# Altium footprint library PcbLib.PcbLib: 27 footprints (part 2 of 2)
Each footprint in its own frame and in the unit in brackets; x right, y up, seen from the top. Pads: shape width x height; smd on the part's side, far side on the other; paste and mask are expansions set on the pad; w line width, h text height; cw(c..) or ccw(c..) is an arc to the next point about the centre after c.
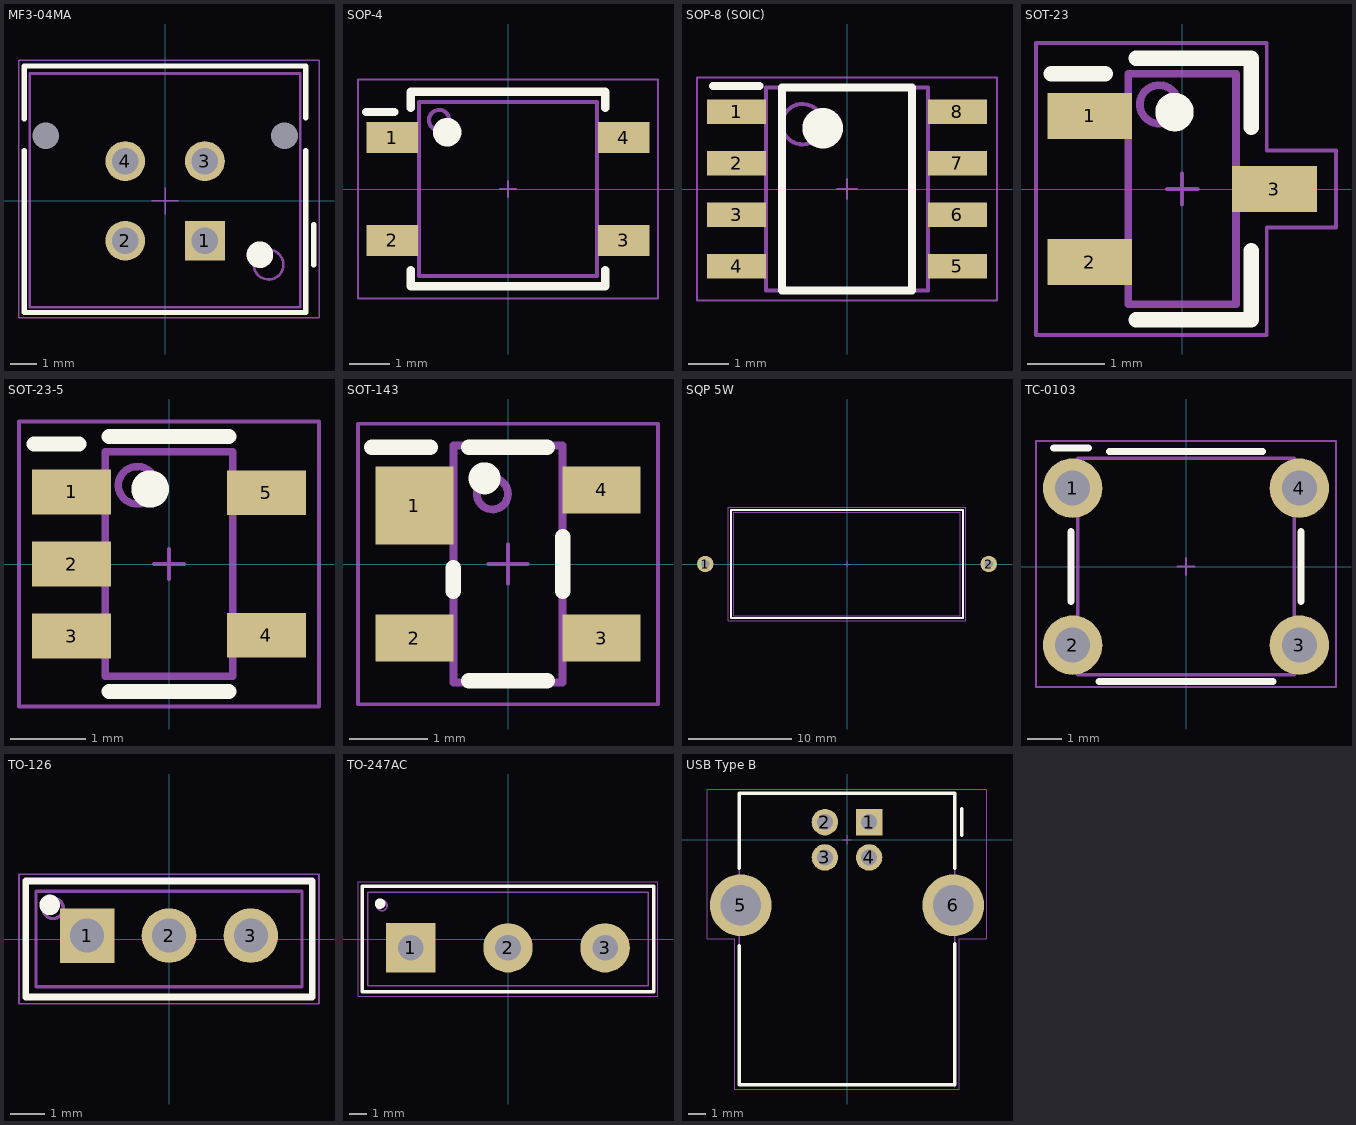
[diagram p1: the footprints below, top view; thin cyan lines are the x and y axes]

## MF3-04MA [mm] "Micro-Fit 3.0 43045-0412 4pin"
pads (6):
  round 0 hole 1 unplated: 0(-4.5,2.45) 0(4.5,2.45)
  rect 1.5x1.5 hole 1: 1(1.5,-1.5)
  round 1.5 hole 1: 2(-1.5,-1.5) 3(1.5,1.5) 4(-1.5,1.5)
Top Overlay:
  circle w0.6: c3.575,-2.025 r0.2
  lines w0.2: -5.3,1.9 -5.3,-4.2 5.3,-4.2 5.3,1.9 ; -5.3,3.1 -5.3,5.085 5.3,5.085 5.3,3.125 ; 5.6,-2.4 5.6,-0.9
Mechanical 13:
  circle w0.1: c3.9,-2.4 r0.559
  lines w0.1: -5.1,-4 5.1,-4 5.1,4.8 -5.1,4.8 -5.1,-4
  text ".Designator" at -2,-3 h1
Mechanical 15:
  lines w0.05: -0.5,0 0.5,0 ; 0,-0.5 0,0.5 ; -5.5,-4.4 -5.5,5.3 5.8,5.3 5.8,-4.4 -5.5,-4.4
3D body "430450412--3DModel-STEP-418109.STEP": height 9.91, standoff -3.18, extent -5.075,-3.97 5.075,4.8

## SOP-4 [mm]
pads (4):
  rect 1.27x0.76 smd: 1(-2.86,1.27) 2(-2.86,-1.27) 3(2.86,-1.27) 4(2.86,1.27)
Top Overlay:
  circle w0.4: c-1.5,1.4 r0.15
  lines w0.2: -3.5,1.9 -2.8,1.9 ; -2.4,-2 -2.4,-2.4 2.4,-2.4 2.4,-2 ; -2.4,2 -2.4,2.4 2.4,2.4 2.4,2
Mechanical 13:
  circle w0.1: c-1.7,1.7 r0.25
  lines w0.1: -2.2,-2.15 2.2,-2.15 2.2,2.15 -2.2,2.15 -2.2,-2.15
  text ".Designator" at -1.791,-1.297 h1
Mechanical 15:
  lines w0.05: -0.2,0 0.2,0 ; 0,-0.2 0,0.2 ; -3.7,-2.7 3.7,-2.7 3.7,2.7 -3.7,2.7 -3.7,-2.7
3D body: height 2.1, standoff 0, extent -2.2,-2.15 2.2,2.15

## SOP-8 (SOIC) [mm] "8-Lead Standard Small Outline Package"
height 1.75
pads (8):
  rect 1.45x0.6 smd: 1(-2.725,1.905) 2(-2.725,0.635) 3(-2.725,-0.635) 4(-2.725,-1.905) 5(2.725,-1.905) 6(2.725,-0.635) 7(2.725,0.635) 8(2.725,1.905)
Top Overlay:
  circle w0.6: c-0.6,1.5 r0.2
  lines w0.2: -3.302,2.54 -2.159,2.54 ; -1.6,-2.5 -1.6,2.5 1.6,2.5 1.6,-2.5 -1.6,-2.5
Mechanical 13:
  circle w0.1: c-1.1,1.6 r0.5
  lines w0.1: -2,-2.5 -2,2.5 2,2.5 2,-2.5 -2,-2.5
  text ".Designator" at -1.75,-3.343 h1
Mechanical 15:
  lines w0.05: -0.25,0 0.25,0 ; 0,-0.25 0,0.25 ; -3.7,-2.75 -3.7,2.75 3.7,2.75 3.7,-2.75 -3.7,-2.75
3D body: height 1.75, standoff 0.1, extent -2,-2.5 2,2.5

## SOT-23 [mm] "3-Leads, Body 2,90x2,30mm, Pitch 0,95mm, IPC Medium Density"
pads (3):
  rect 1.1x0.6 smd: 1(-1.2,0.95) 2(-1.2,-0.95) 3(1.2,0)
Top Overlay:
  circle w0.3: c-0.1,1 r0.1
  lines w0.2: -1.7,1.5 -1,1.5 ; -0.6,-1.7 0.9,-1.7 0.9,-0.8 ; -0.6,1.7 0.9,1.7 0.9,0.8
Mechanical 13:
  circle w0.1: c-0.3,1.1 r0.25
  lines w0.1: -0.7,-1.5 0.7,-1.5 0.7,1.5 -0.7,1.5 -0.7,-1.5
  text ".Designator" at -2,-2.5 h1
Mechanical 15:
  lines w0.05: -0.2,0 0.2,0 ; 0,-0.2 0,0.2 ; -1.9,-1.9 -1.9,1.4 -1.9,1.9 -0.9,1.9 1.1,1.9 1.1,0.5 2,0.5 2,-0.5 1.1,-0.5 1.1,-1.9 -0.9,-1.9 -1.9,-1.9
3D body: height 0.25, standoff 0, extent -1.4,-1.2 -0.7,-0.7
3D body: height 0.25, standoff 0, extent 0.7,-0.25 1.4,0.25
3D body: height 0.25, standoff 0, extent -1.4,0.7 -0.7,1.2
3D body: height 1.12, standoff 0.1, extent -0.7,-1.5 0.7,1.5

## SOT-23-5 [mm] "5-Leads, Body 3,00x1,70mm, Pitch 0,95mm"
pads (5):
  rect 1.05x0.6 smd: 1(-1.3,0.96) 2(-1.3,0) 3(-1.3,-0.96) 4(1.3,-0.95) 5(1.3,0.95)
Top Overlay:
  circle w0.3: c-0.25,1 r0.1
  lines w0.2: -1.8,1.6 -1.2,1.6 ; -0.8,-1.7 0.8,-1.7 ; -0.8,1.7 0.8,1.7
Mechanical 13:
  circle w0.1: c-0.425,1.05 r0.25
  lines w0.1: -0.85,-1.5 -0.85,1.5 0.85,1.5 0.85,-1.5 -0.85,-1.5
  text ".Designator" at -1.75,-2.5 h1
Mechanical 15:
  lines w0.05: -0.2,0 0.2,0 ; 0,-0.2 0,0.2 ; -2,-1.9 -2,1.9 -1,1.9 2,1.9 2,1.5 2,-1.5 2,-1.9 -1,-1.9 -2,-1.9
3D body: height 1.35, standoff 0.15, extent -0.85,-1.5 0.85,1.5
3D body: height 0.15, standoff 0, extent 0.85,0.7 1.55,1.2
3D body: height 0.15, standoff 0, extent 0.85,-1.2 1.55,-0.7
3D body: height 0.15, standoff 0, extent -1.55,0.7 -0.85,1.2
3D body: height 0.15, standoff 0, extent -1.55,-0.25 -0.85,0.25
3D body: height 0.15, standoff 0, extent -1.55,-1.2 -0.85,-0.7

## SOT-143 [mm] "4-Leads, Body 2,9x1,3mm"
pads (4):
  rect 1x1 smd: 1(-1.2,0.75)
  rect 1x0.6 smd: 2(-1.2,-0.95) 3(1.2,-0.95) 4(1.2,0.95)
Top Overlay:
  circle w0.25: c-0.3,1.1 r0.08
  lines w0.2: -1.75,1.5 -1,1.5 ; -0.7,-0.35 -0.7,-0.05 ; -0.5,-1.5 0.5,-1.5 ; -0.5,1.5 0.5,1.5 ; 0.7,-0.35 0.7,0.35
Mechanical 13:
  circle w0.1: c-0.2,0.9 r0.2
  lines w0.1: -0.7,-1.52 0.7,-1.52 0.7,1.52 -0.7,1.52 -0.7,-1.52
  text ".Designator" at -1.75,-2.5 h1
Mechanical 15:
  lines w0.05: -0.25,0 0.25,0 ; 0,-0.25 0,0.25 ; -1.925,-1.8 1.925,-1.8 1.925,1.8 -1.925,1.8 -1.925,-1.8
3D body "SOT190P237X120-4N.step": height 1.2, standoff 0.01, extent -1.179,-1.52 1.179,1.52

## SQP 5W [mm] "Body 10x22mm"
pads (2):
  round 1.6 hole 0.8 unplated: 1(-13.75,0) 2(13.75,0)
Top Overlay:
  lines w0.2: -11.25,-5.25 11.25,-5.25 11.25,5.25 -11.25,5.25 -11.25,-5.25
Mechanical 12:
  text "140.02.0208.00.00" at -2.251,2.5 h0.8
Mechanical 13:
  lines w0.1: -11,-5 -11,5 0,5 11,5 11,-5 -11,-5
  text ".Designator" at -1.891,-1.297 h1
Mechanical 15:
  lines w0.05: -0.25,0 0.25,0 ; 0,-0.25 0,0.25 ; -11.5,-5.5 11.5,-5.5 11.5,5.5 -11.5,5.5 -11.5,-5.5

## TC-0103 [mm]
pads (4):
  round 1.7 hole 1 unplated: 1(-3.25,2.25) 2(-3.25,-2.25) 3(3.25,-2.25) 4(3.25,2.25)
Top Overlay:
  lines w0.2: -3.8,3.4 -2.8,3.4 ; -3.3,-1 -3.3,1 ; -2.5,-3.3 2.5,-3.3 ; -2.2,3.3 2.2,3.3 ; 3.3,-1 3.3,1
Mechanical 13:
  lines w0.1: -3.1,-3.1 3.1,-3.1 3.1,3.1 -3.1,3.1 -3.1,-3.1
  text ".Designator" at -1.75,-0.997 h1
Mechanical 15:
  lines w0.05: -0.25,0 0.25,0 ; 0,-0.25 0,0.25 ; -4.3,-3.45 4.3,-3.45 4.3,3.6 -4.3,3.6 -4.3,-3.45
3D body "A06-17.0.step": height 17.1, standoff -3.4, extent -3.914,-3 3.914,3

## TO-126 [mm]
pads (3):
  rect 1.6x1.6 hole 1 unplated: 1(-2.4,0.1)
  round 1.6 hole 1 unplated: 2(0,0.1) 3(2.4,0.1)
Top Overlay:
  circle w0.4: c-3.5,1 r0.1
  lines w0.2: -4.2,-1.7 4.2,-1.7 4.2,1.7 -2.8,1.7 -4.2,1.7 -4.2,-1.7
Mechanical 13:
  circle w0.1: c-3.4,0.9 r0.3
  lines w0.1: -3.9,-1.4 3.9,-1.4 3.9,1.4 -3.9,1.4 -3.9,-1.4
  text ".Designator" at -1.75,-2.497 h1
Mechanical 15:
  lines w0.05: -0.2,0 0.2,0 ; 0,-0.2 0,0.2 ; -4.4,-1.9 -4.4,1.9 4.4,1.9 4.4,-1.9 -4.4,-1.9
3D body: height 11.1, standoff 1, extent -3.9,0.1 3.9,1.4
3D body: height 11.1, standoff 1, extent -3.9,-1.4 3.9,0.1
3D body: height 1, standoff -1, extent -0.43,-0.312 0.43,0.313
3D body: height 1, standoff -1, extent 1.97,-0.312 2.83,0.313
3D body: height 1, standoff -1, extent -2.83,-0.312 -1.97,0.313

## TO-247AC [mm]
pads (3):
  rect 2.8x2.8 hole 1.45 unplated: 1(-5.5,-0.5)
  round 2.8 hole 1.45 unplated: 2(0,-0.5) 3(5.5,-0.5)
Top Overlay:
  circle w0.4: c-7.25,2 r0.1
  lines w0.2: -7.5,3 -8.25,3 ; -8.25,3 8.25,3 8.25,-3 -8.25,-3 -8.25,3
Mechanical 13:
  circle w0.1: c-7.15,1.9 r0.3
  lines w0.1: -7.95,-2.65 7.95,-2.65 7.95,2.65 -7.95,2.65 -7.95,-2.65
  text ".Designator" at -1.75,1.5 h1
Mechanical 15:
  lines w0.05: -0.5,0 0.5,0 ; 0,-0.5 0,0.5 ; -8.5,-3.25 -8.5,3.25 8.5,3.25 8.5,-3.25 -8.5,-3.25
3D body: height 0, standoff -1.8, extent -6.162,-0.8 -4.837,-0.2
3D body: height 0, standoff -1.8, extent 4.837,-0.8 6.162,-0.2
3D body: height 4.3, standoff 0, extent 4.3,-0.8 6.7,-0.2
3D body: height 0, standoff -1.8, extent -0.663,-0.8 0.663,-0.2
3D body: height 4.3, standoff 0, extent -1.2,-0.8 1.2,-0.2
3D body: height 24.6, standoff 4.3, extent -7.95,-2.65 7.95,0.25
3D body: height 24.6, standoff 4.3, extent -7.95,0.25 7.95,2.65
3D body: height 4.3, standoff 0, extent -6.7,-0.8 -4.3,-0.2

## USB Type B [mm] "USBB-1J (DS1099-W)"
pads (6):
  rect 1.5x1.5 hole 0.9: 1(1.25,1)
  round 1.5 hole 0.9: 2(-1.25,1) 3(-1.25,-1) 4(1.25,-1)
  round 3.5 hole 2.3: 5(-6.02,-3.71) 6(6.02,-3.71)
Top Overlay:
  lines w0.2: -6.1,-6 -6.1,-13.87 6.1,-13.87 6.1,-5.9 ; -6.1,-1.6 -6.1,2.63 6.1,2.63 6.1,-1.6 ; 6.5,0.25 6.5,1.75
Mechanical 11:
  lines w0.1: 6.1,-13.99 6.1,-13.87
Mechanical 13:
  circle w0.1: c1.25,1 r0.2
  lines w0.1: -6.1,-13.87 6.1,-13.87 6.1,2.63 -6.1,2.63 -6.1,-13.87
  text ".Designator" at -2,-3.5 h1
Mechanical 15:
  lines w0.05: -0.25,0 0.25,0 ; 0,-0.25 0,0.25 ; -7.92,-5.61 -6.35,-5.61 -6.35,-14.12 6.35,-14.12 6.35,-5.62 7.92,-5.62 7.92,-1.74 7.92,2.88 -7.92,2.88 -7.92,-1.74 -7.92,-5.61
3D body: height 10.55, standoff 0, extent -6.1,-13.87 6.1,2.63